# Altium footprint library adafruit.PCBLIB: 643 footprints (part 17 of 41)
Each footprint in its own frame and in the unit in brackets; x right, y up, seen from the top. Pads: shape width x height; smd on the part's side, far side on the other; paste and mask are expansions set on the pad; w line width, h text height; cw(c..) or ccw(c..) is an arc to the next point about the centre after c.
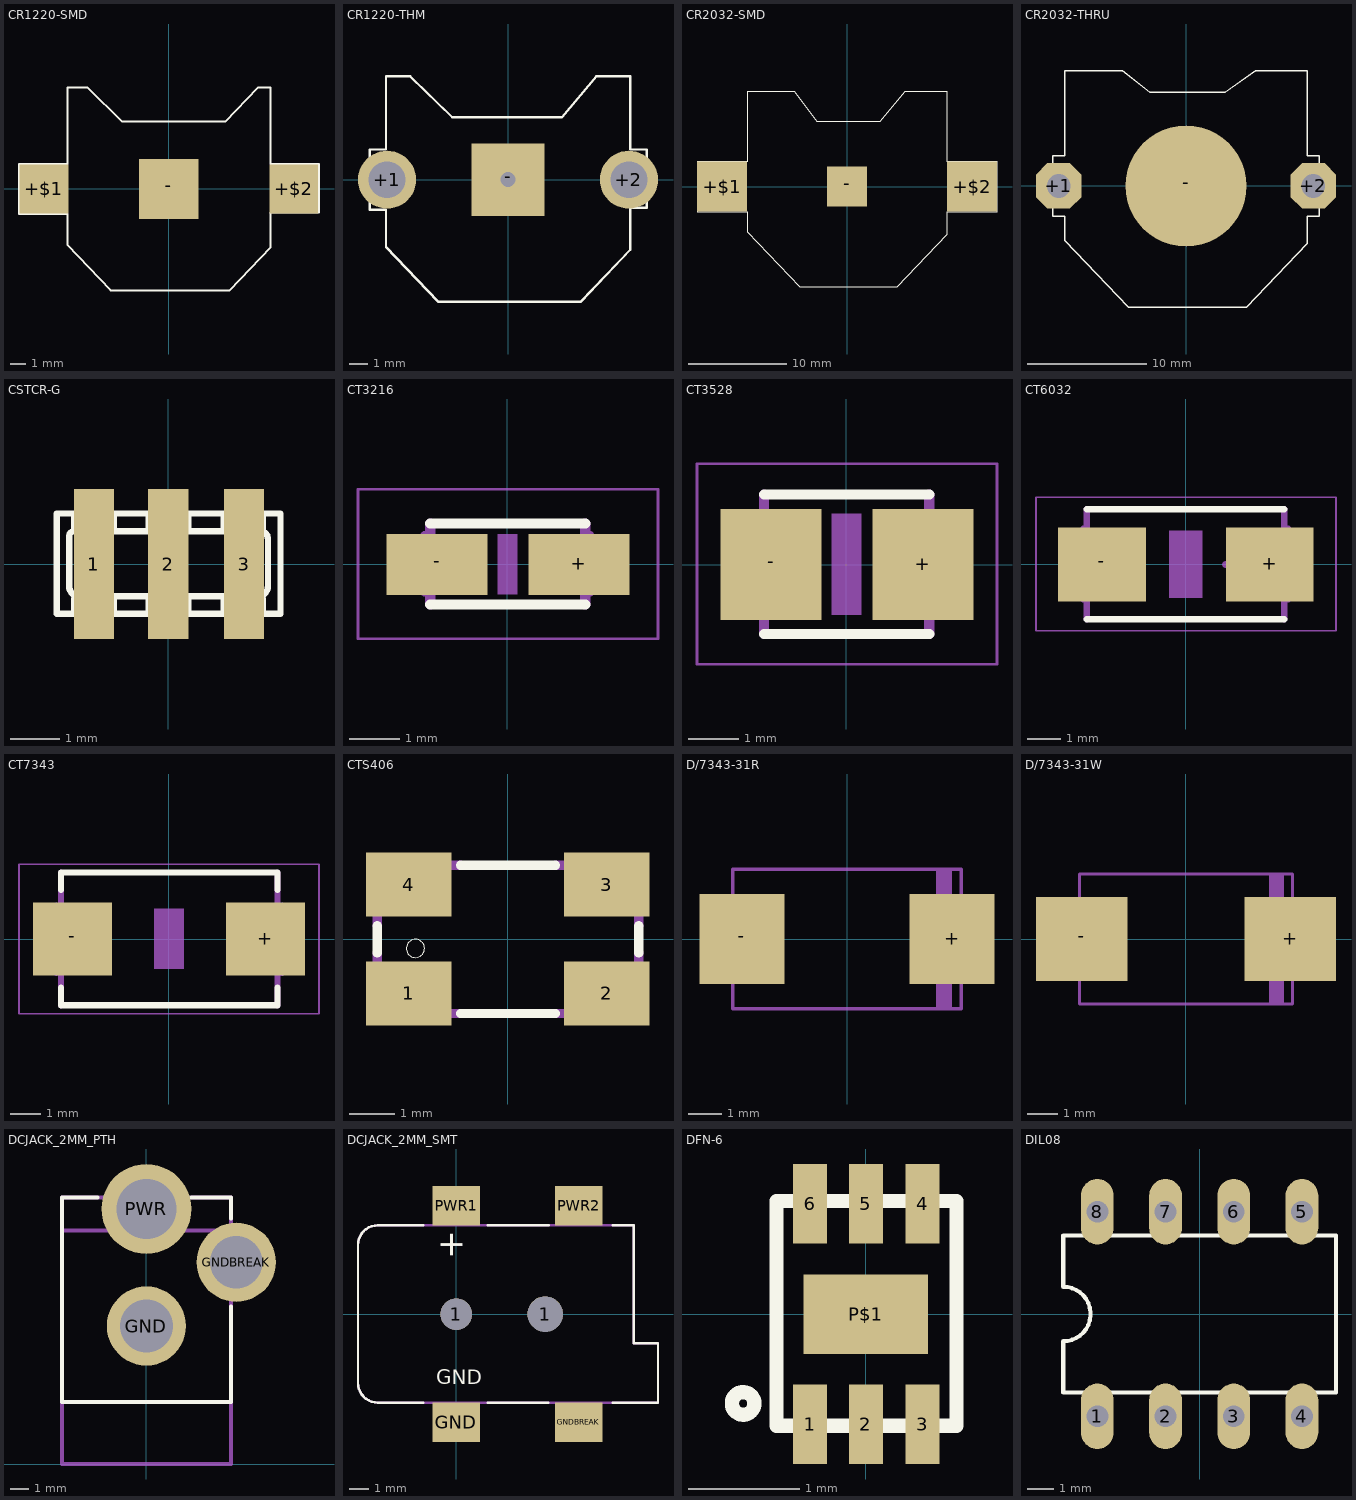
[diagram p16: the footprints below, top view; thin cyan lines are the x and y axes]

## CR1220-SMD [mil]
pads (3):
  rect 126x126 smd: +$1(-322.83,0) +$2(323,0)
  rect 154x154 smd: -(0,0)
Top Overlay:
  circle w5: c-324.96,0 r37
  circle w5: c331,7 r37
  lines w5: -387.4,-64.57 -262.2,-64.57 -262.2,-144.57 -150.63,-262.2 157,-262.2 263,-150.63 263,-60.63 388,-60.63 388,65 263,65 263,262 230,262 146,174 -120,174 -210,262 -262.2,262 -262.2,65 -387.4,65 -387.4,-64.57

## CR1220-THM [mil]
pads (3):
  round 125 hole 79: +1(-260,0) +2(260,0)
  rect 156x156 hole 32: -(0,0)
Top Overlay:
  lines w5: -297.4,-64.57 -262.2,-64.57 -262.2,-144.57 -150.63,-262.2 157,-262.2 263,-150.63 263,-60.63 298,-60.63 298,65 263,65 263,222 190,222 116,134 -120,134 -210,222 -262.2,222 -262.2,65 -297.4,65 -297.4,-64.57

## CR2032-SMD [mil]
pads (3):
  rect 200x200 smd: +$1(-500,0) +$2(500,0)
  rect 160x160 smd: -(0,0)
Top Overlay:
  circle w5: c-510,0 r37
  circle w5: c500,10 r37
  lines w5: -600,-100 -400,-100 -400,-180 -190,-400 200,-400 400,-190 400,-100 600,-100 600,100 400,100 400,380 230,380 130,260 -120,260 -210,380 -400,380 -400,100 -600,100 -600,-100
Top Solder:
  region: 0,0 10,0 10,10 0,10

## CR2032-THRU [mil]
pads (3):
  oct 150x150 hole 79: +1(-420,0) +2(420,0)
  rrect100% 400x400 smd: -(0,0)
Top Overlay:
  lines w5: -440,-100 -400,-100 -400,-180 -190,-400 200,-400 400,-190 400,-100 440,-100 440,100 400,100 400,380 230,380 130,310 -120,310 -210,380 -400,380 -400,100 -440,100 -440,-100
Top Solder:
  region: 0,0 10,0 10,10 0,10

## CSTCR-G [mil]
pads (3):
  rect 32x119 smd: 1(-59.06,0) 2(0,0) 3(60,0)
Top Overlay:
  lines w5: -74.8,-37.4 -74.8,-27.56 ; -74.8,28 -74.8,40 ; -43.31,-37.4 -43.31,-27.56 ; -15.75,-37.4 -15.75,-25.59 ; -15.75,28 -15.75,40 ; 16,-37.4 16,-27.56 ; 16,28 16,40 ; 44,-37.4 44,-27.56 ; 44,28 44,40 ; 75,-37.4 75,-27.56 ; 75,28 75,40 ; -74.8,40 -88.58,40 -88.58,-39.37 -66.93,-39.37 cw(c-59.06,-39.37) -51.18,-39.37 -7.87,-39.37 cw(c0.06,-39.37) 8,-39.37 52,-39.37 cw(c59.5,-39.37) 67,-39.37 89,-39.37 89,40 75,40 ; -74.8,40 -66.93,40 ccw(c-59.06,40) -51.18,40 -43.31,40 ; -43.31,26 73,26 cw(c73,20) 79,20 79,-17.72 cw(c71.06,-17.65) 71,-25.59 -15.75,-25.59 ; -43.31,26 -74.8,26 ccw(c-74.77,22.03) -78.74,22 -78.74,-17.72 ccw(c-70.87,-17.72) -70.87,-25.59 -15.75,-25.59 ; -43.31,26 -43.31,40 ; -43.31,40 -15.75,40 ; -15.75,40 -7.87,40 ccw(c0.06,40) 8,40 16,40 ; 16,40 44,40 ; 44,40 52,40 ccw(c59.5,40) 67,40 75,40

## CT3216 [mil]
pads (2):
  rect 79x48 smd: +(56,0) -(-55.12,0)
Top Overlay:
  lines w8: -60.43,-31.42 61,-31.42 ; -60.43,32 61,32
Assembly Text Top:
  rectangle: -7.87,-23.62 8,24
Courtyard Bottom:
  lines w6: -65,-22.01 -65,23 ; 65,-22.01 65,23
  lines w8: -60.43,-31.42 -60.43,32 ; 28,0 50,0 ; 39,-10.24 39,12 ; 61,-31.42 61,32
Mech37:
  lines w2: -117.05,-58.39 118,-58.39 118,59 -117.05,59 -117.05,-58.39

## CT3528 [mil]
pads (2):
  rect 79x87 smd: +(60,0) -(-59.06,0)
Top Overlay:
  lines w8: -64.45,-54.45 65,-54.45 ; -64.45,55 65,55
Assembly Text Top:
  rectangle: -11.81,-39.37 12,40
Courtyard Bottom:
  lines w6: -70,-40 -70,40 ; 70,-40 70,40
  lines w8: -64.45,-54.45 -64.45,55 ; 27,0 52,0 ; 40,-11.81 40,13 ; 65,-54.45 65,55
Mech37:
  lines w2: -117.05,-78.07 118,-78.07 118,79 -117.05,79 -117.05,-78.07

## CT6032 [mil]
pads (2):
  rect 103x87 smd: +(99,0) -(-98.43,0)
Top Overlay:
  lines w8: -116.42,-64.45 116,-64.45 ; -116.42,65 116,65
Assembly Text Top:
  rectangle: -19.69,-39.37 20,40
Courtyard Bottom:
  lines w6: -120.98,-42.01 -120.98,43 ; 121,-42.01 121,43
  lines w8: -116.42,-64.45 -116.42,65 ; 47,0 97,0 ; 71,-24.8 71,26 ; 116,-64.45 116,65
Mech37:
  lines w2: -176.1,-78.07 177,-78.07 177,79 -176.1,79 -176.1,-78.07

## CT7343 [mil]
pads (2):
  rect 103x95 smd: +(126,0) -(-125.98,0)
Top Overlay:
  lines w8: -141.02,-63.58 -141.02,-86.42 142,-86.42 142,-63.58 ; -141.02,64 -141.02,87 142,87 142,64
Assembly Text Top:
  rectangle: -19.69,-39.37 20,40
Courtyard Bottom:
  lines w6: -147.01,-45 -147.01,45 ; 148,-45 148,45
  lines w8: -141.02,-86.42 -141.02,87 ; 81,0 122,0 ; 101,-20.47 101,21 ; 142,-86.42 142,87
Mech37:
  lines w2: -195.79,-97.76 196,-97.76 196,98 -195.79,98 -195.79,-97.76

## CTS406 [mil]
pads (4):
  rect 75x56 smd: 1(-86.61,-47.24) 2(87,-47.24) 3(87,48) 4(-86.61,48)
Top Overlay:
  circle w0: c-80.71,-7.87 r8
  lines w8: -114.17,-11.81 -114.17,12 ; -41.34,-64.96 42,-64.96 ; -41.34,65 42,65 ; 115,-11.81 115,12
Courtyard Bottom:
  lines w8: -114.17,-11.81 -114.17,-48.23 cw(c-114.24,-65.03) -97.44,-64.96 -41.34,-64.96 ; -114.17,12 -114.17,49 ccw(c-113.87,65.44) -97.44,65 -41.34,65 ; 42,-64.96 98,-64.96 cw(c114.94,-65.17) 115,-48.23 115,-11.81 ; 42,65 98,65 ccw(c114.57,65.57) 115,49 115,12

## D/7343-31R [mil]
pads (2):
  rect 101x107 smd: +(125,0) -(-125,0)
Courtyard Bottom:
  rectangle: -143.7,-47.24 -137.8,48
  rectangle: 138,-47.24 144,48
  rectangle: 106,-83.66 125,84
  lines w4: -135.83,-82.68 136,-82.68 136,83 -135.83,83 -135.83,-82.68

## D/7343-31W [mil]
pads (2):
  rect 117x107 smd: +(133,0) -(-132.87,0)
Courtyard Bottom:
  rectangle: -143.7,-47.24 -137.8,48
  rectangle: 138,-47.24 144,48
  rectangle: 106,-83.66 125,84
  lines w4: -135.83,-82.68 136,-82.68 136,83 -135.83,83 -135.83,-82.68

## DCJACK_2MM_PTH [mil]
pads (3):
  round 166.5 hole 111: GND(0,290) GNDBREAK(189,424)
  round 189 hole 126: PWR(0,536)
Top Overlay:
  lines w8: -102.36,560 -177.17,560 -177.17,130 178,130 178,331 ; 95,560 178,560 178,516
Courtyard Bottom:
  lines w8: 95,560 105,560 ; 174,491 -177.17,491 ; 178,331 178,329 ; -177.17,130 -177.17,0 178,0 178,130 ; -177.17,130 178,130 ; -177.17,130 -177.17,491 ; -177.17,491 -177.17,560 105,560 ; 105,560 178,560 178,329 ; 178,130 178,329
  text "DC 2.0/2.1" at -130,50 h49.6

## DCJACK_2MM_SMT [mil]
pads (6):
  round 63 hole 63: 1(0,0)
  round 71 hole 71: 1(178,0)
  rect 95x79 smd: GND(0,-216.54) GNDBREAK(245,-216.54) PWR1(0,217) PWR2(245,217)
Top Overlay:
  lines w5: -66.3,-177.17 -157.48,-177.17 cw(c-157.48,-137.8) -196.85,-137.8 -196.85,138 cw(c-157.17,138.31) -157.48,178 -65.67,178 ; 63,-177.17 184,-177.17 ; 63,178 185,178 ; 313,-177.17 404,-177.17 404,-58.74 355,-58.74 355,178 313,178
  text "+" at 30,110 h86.8
  text "GND" at -40,-150 h49.6
Assembly Top keep-out:
  region: 0,0 10,0 10,10 0,10
  region: 0,0 10,0 10,10 0,10
  region: 0,0 10,0 10,10 0,10
  region: 0,0 10,0 10,10 0,10
Courtyard Bottom:
  lines w5: -196.85,-137.8 -196.85,138 cw(c-157.17,138.31) -157.48,178 355,178 355,-58.74 404,-58.74 404,-177.17 -157.48,-177.17 cw(c-157.48,-137.8) -196.85,-137.8

## DFN-6 [mil]
pads (7):
  rect 12x28 smd: 1(-19.68,-38.88) 2(0,-38.88) 3(20,-38.88) 4(20,39) 5(0,39) 6(-19.68,39)
  rect 44x28 smd: P$1(0,0)
Top Overlay:
  circle w5: c-43.31,-31.5 r4
  lines w5: -31.5,-39.37 32,-39.37 32,40 -31.5,40 -31.5,-39.37
Top Paste:
  rectangle: -21.65,4 -11.81,14
  region: 12,14 12,4 22,4 22,14
  region: 22,-3.94 12,-3.94 12,-13.78 22,-13.78
  region: -11.81,-13.78 -11.81,-3.94 -21.65,-3.94 -21.65,-13.78
  region: 6,-3.94 -5.91,-3.94 -5.91,-13.78 6,-13.78
  rectangle: -5.91,4 6,14

## DIL08 [mil]
pads (8):
  oval 48x96 hole 32: 1(-150,-150) 2(-50,-150) 3(50,-150) 4(150,-150) 5(150,150) 6(50,150) 7(-50,150) 8(-150,150)
Top Overlay:
  lines w6: -200,-115 200,-115 200,115 -200,115 -200,40 cw(c-200,0) -200,-40 -200,-115